# Altium footprint library USB_F.PcbLib: 1 footprints
Each footprint in its own frame and in the unit in brackets; x right, y up, seen from the top. Pads: shape width x height; smd on the part's side, far side on the other; paste and mask are expansions set on the pad; w line width, h text height; cw(c..) or ccw(c..) is an arc to the next point about the centre after c.
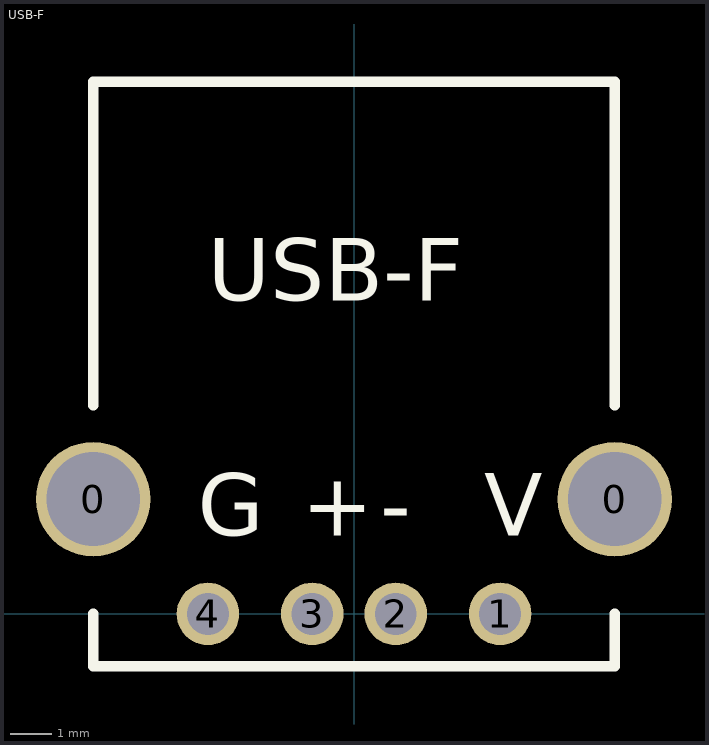
[diagram p0: the footprint, top view; thin cyan lines are the x and y axes]

## USB-F [mil]
pads (6):
  round 110 hole 90: 0(-250,110) 0(250,110)
  round 60 hole 40: 1(140,0) 2(40,0) 3(-40,0) 4(-140,0)
Top Overlay:
  lines w10: -250,0 -250,-50 250,-50 250,0 ; -250,200 -250,510 250,510 250,200
  text "USB-F" at -140,300 h60
  text "V" at 125,75 h60
  text "-" at 25,75 h60
  text "+" at -50,75 h60
  text "G" at -150,75 h60